# Altium integrated library 22-27-2021.IntLib: 1 symbol
Pins are listed as number, name and electrical type; pins without a type are passive.

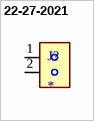
[diagram p0: symbol 22-27-2021]

## 22-27-2021
designator J?
Connector Wire to Board Header 2 Position 2.54mm Solder Straight Thru-Hole Ba; Package: None; Price: None; Value: *; MP: 22-27-2021; Availability: Unavailable
footprint HDRV2W64P254_1X2_580X508X1170P
pins: 1, 2